# EAGLE library part POLOLUDRV8833 (library AlarisHandLib)
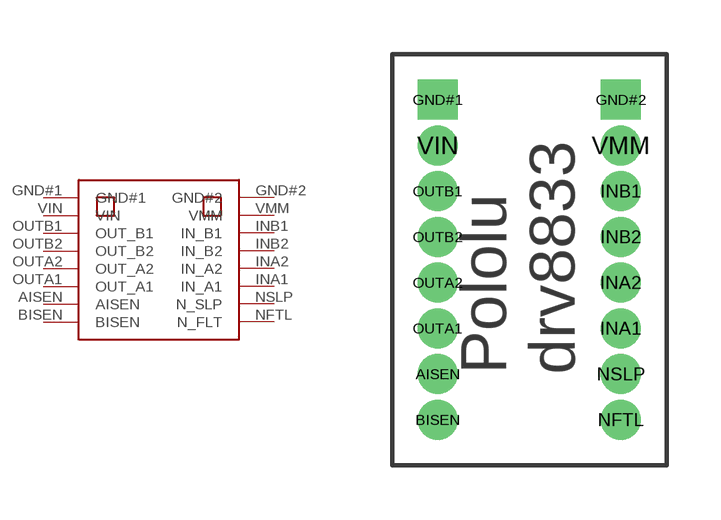
[diagram p0: symbol with the pads of POLOLUDRV8833; footprint POLOLUDRV8833]

Designator prefix -

## POLOLUDRV8833  [POLOLUDRV8833]
AISEN  AISEN
BISEN  BISEN
GND#1  GND#1
GND#2  GND#2
INA1  IN_A1
INA2  IN_A2
INB1  IN_B1
INB2  IN_B2
NFTL  N_FLT
NSLP  N_SLP
OUTA1  OUT_A1
OUTA2  OUT_A2
OUTB1  OUT_B1
OUTB2  OUT_B2
VIN  VIN
VMM  VMM

## Footprint POLOLUDRV8833 (pad centres in mm)
drill 0.6: AISEN -2.54,-3.81; BISEN -2.54,-5.08; INA1 2.54,-2.54; INA2 2.54,-1.27; INB1 2.54,1.27; INB2 2.54,0; NFTL 2.54,-5.08; NSLP 2.54,-3.81; OUTA1 -2.54,-2.54; OUTA2 -2.54,-1.27; OUTB1 -2.54,1.27; OUTB2 -2.54,0; VIN -2.54,2.54; VMM 2.54,2.54
drill 0.6 square: GND#1 -2.54,3.81; GND#2 2.54,3.81